# EAGLE library part TPD4E001 (library NewSDR)
TI Low-Capacitance +/- 15 kV ESD Protection Array for High Speed Data Interfaces
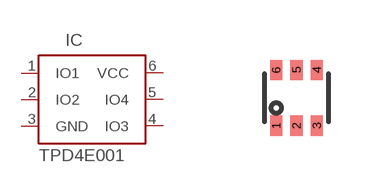
[diagram p80: symbol with the pads of SOT-553-6; footprint SOT-553-6]

Designator prefix IC

## TPD4E0014DRLR  [SOT-553-6]
1  IO1  pas
2  IO2  pas
3  GND  pwr
4  IO3  pas
5  IO4  pas
6  VCC  pwr

## Footprint SOT-553-6 (pad centres in mm)
smd 0.305 x 0.508: 1 -0.508,-0.699; 2 0,-0.699; 3 0.508,-0.699; 4 0.508,0.699; 5 0,0.699; 6 -0.508,0.699